# Altium footprint library con-weidmueller-sl35.PCBLIB: 184 footprints (part 11 of 12)
Each footprint in its own frame and in the unit in brackets; x right, y up, seen from the top. Pads: shape width x height; smd on the part's side, far side on the other; paste and mask are expansions set on the pad; w line width, h text height; cw(c..) or ccw(c..) is an arc to the next point about the centre after c.
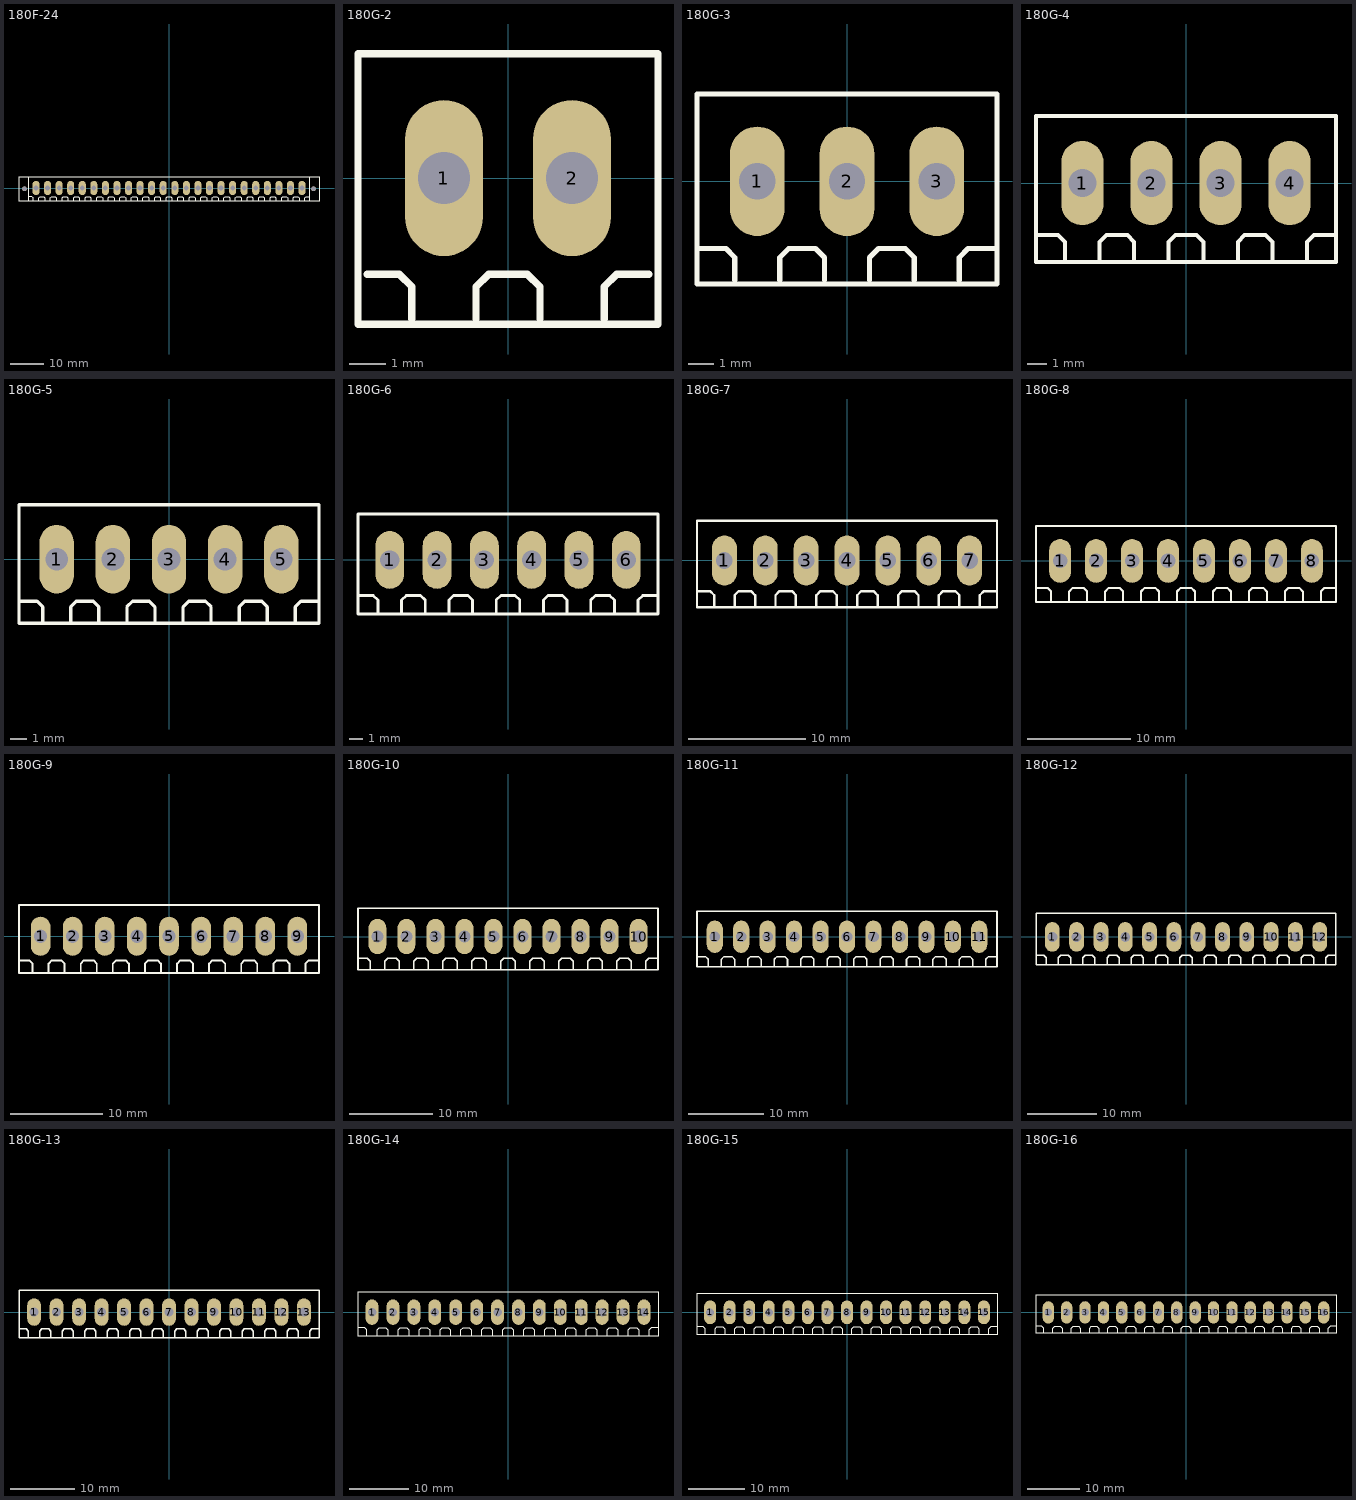
[diagram p10: the footprints below, top view; thin cyan lines are the x and y axes]

## 180F-24 [mil]
pads (26):
  round 56 hole 56: 1(-1722.44,-9.84) 1(1722.44,-9.84)
  oval 84x168 hole 56: 1(-1584.65,0) 2(-1446.85,0) 3(-1309.06,0) 4(-1171.26,0) 5(-1033.46,0) 6(-895.67,0) 7(-757.87,0) 8(-620.08,0) 9(-482.28,0) 10(-344.49,0) 11(-206.69,0) 12(-68.9,0) 13(68.9,0) 14(206.69,0) 15(344.49,0) 16(482.28,0) 17(620.08,0) 18(757.87,0) 19(895.67,0) 20(1033.46,0) 21(1171.26,0) 22(1309.06,0) 23(1446.85,0) 24(1584.65,0)
Top Overlay:
  lines w8: -1670.28,133.86 -1670.28,-157.48 ; -1667.32,-103.35 -1632.87,-103.35 -1619.09,-117.13 -1619.09,-151.57 ; -1550.2,-151.57 -1550.2,-117.13 -1536.42,-103.35 -1495.08,-103.35 -1481.3,-117.13 -1481.3,-151.57 ; -1412.4,-151.57 -1412.4,-117.13 -1398.62,-103.35 -1357.28,-103.35 -1343.5,-117.13 -1343.5,-151.57 ; -1274.61,-151.57 -1274.61,-117.13 -1260.83,-103.35 -1219.49,-103.35 -1205.71,-117.13 -1205.71,-151.57 ; -1136.81,-151.57 -1136.81,-117.13 -1123.03,-103.35 -1081.69,-103.35 -1067.91,-117.13 -1067.91,-151.57 ; -999.02,-151.57 -999.02,-117.13 -985.24,-103.35 -943.9,-103.35 -930.12,-117.13 -930.12,-151.57 ; -861.22,-151.57 -861.22,-117.13 -847.44,-103.35 -806.1,-103.35 -792.32,-117.13 -792.32,-151.57 ; -723.43,-151.57 -723.43,-117.13 -709.65,-103.35 -668.31,-103.35 -654.53,-117.13 -654.53,-151.57 ; -585.63,-151.57 -585.63,-117.13 -571.85,-103.35 -530.51,-103.35 -516.73,-117.13 -516.73,-151.57 ; -447.83,-151.57 -447.83,-117.13 -434.06,-103.35 -392.72,-103.35 -378.94,-117.13 -378.94,-151.57 ; -310.04,-151.57 -310.04,-117.13 -296.26,-103.35 -254.92,-103.35 -241.14,-117.13 -241.14,-151.57 ; -172.24,-151.57 -172.24,-117.13 -158.46,-103.35 -117.13,-103.35 -103.35,-117.13 -103.35,-151.57 ; -34.45,-151.57 -34.45,-117.13 -20.67,-103.35 20.67,-103.35 34.45,-117.13 34.45,-151.57 ; 103.35,-151.57 103.35,-117.13 117.13,-103.35 158.46,-103.35 172.24,-117.13 172.24,-151.57 ; 241.14,-151.57 241.14,-117.13 254.92,-103.35 296.26,-103.35 310.04,-117.13 310.04,-151.57 ; 378.94,-151.57 378.94,-117.13 392.72,-103.35 434.06,-103.35 447.83,-117.13 447.83,-151.57 ; 516.73,-151.57 516.73,-117.13 530.51,-103.35 571.85,-103.35 585.63,-117.13 585.63,-151.57 ; 654.53,-151.57 654.53,-117.13 668.31,-103.35 709.65,-103.35 723.43,-117.13 723.43,-151.57 ; 792.32,-151.57 792.32,-117.13 806.1,-103.35 847.44,-103.35 861.22,-117.13 861.22,-151.57 ; 930.12,-151.57 930.12,-117.13 943.9,-103.35 985.24,-103.35 999.02,-117.13 999.02,-151.57 ; 1067.91,-151.57 1067.91,-117.13 1081.69,-103.35 1123.03,-103.35 1136.81,-117.13 1136.81,-151.57 ; 1205.71,-151.57 1205.71,-117.13 1219.49,-103.35 1260.83,-103.35 1274.61,-117.13 1274.61,-151.57 ; 1343.5,-151.57 1343.5,-117.13 1357.28,-103.35 1398.62,-103.35 1412.4,-117.13 1412.4,-151.57 ; 1481.3,-151.57 1481.3,-117.13 1495.08,-103.35 1536.42,-103.35 1550.2,-117.13 1550.2,-151.57 ; 1619.09,-151.57 1619.09,-117.13 1632.87,-103.35 1667.32,-103.35 ; -1670.28,-157.48 1670.28,-157.48 ; -1670.28,-157.48 -1787.4,-157.48 -1787.4,133.86 1670.28,133.86 ; 1670.28,-157.48 1787.4,-157.48 1787.4,133.86 1670.28,133.86 ; 1670.28,-157.48 1670.28,133.86

## 180G-2 [mil]
pads (2):
  oval 84x168 hole 56: 1(-68.9,0) 2(68.9,0)
Top Overlay:
  lines w8: -151.57,-103.35 -117.13,-103.35 -103.35,-117.13 -103.35,-151.57 ; -34.45,-151.57 -34.45,-117.13 -20.67,-103.35 20.67,-103.35 34.45,-117.13 34.45,-151.57 ; 103.35,-151.57 103.35,-117.13 117.13,-103.35 151.57,-103.35 ; -161.42,-157.48 161.42,-157.48 161.42,133.86 -161.42,133.86 -161.42,-157.48

## 180G-3 [mil]
pads (3):
  oval 84x168 hole 56: 1(-137.8,0) 2(0,0) 3(137.8,0)
Top Overlay:
  lines w8: -227.36,-103.35 -186.02,-103.35 -172.24,-117.13 -172.24,-151.57 ; -103.35,-151.57 -103.35,-117.13 -89.57,-103.35 -48.23,-103.35 -34.45,-117.13 -34.45,-151.57 ; 34.45,-151.57 34.45,-117.13 48.23,-103.35 89.57,-103.35 103.35,-117.13 103.35,-151.57 ; 172.24,-151.57 172.24,-117.13 186.02,-103.35 227.36,-103.35 ; -230.32,-157.48 230.32,-157.48 230.32,133.86 -230.32,133.86 -230.32,-157.48

## 180G-4 [mil]
pads (4):
  oval 84x168 hole 56: 1(-206.69,0) 2(-68.9,0) 3(68.9,0) 4(206.69,0)
Top Overlay:
  lines w8: -296.26,-103.35 -254.92,-103.35 -241.14,-117.13 -241.14,-151.57 ; -172.24,-151.57 -172.24,-117.13 -158.46,-103.35 -117.13,-103.35 -103.35,-117.13 -103.35,-151.57 ; -34.45,-151.57 -34.45,-117.13 -20.67,-103.35 20.67,-103.35 34.45,-117.13 34.45,-151.57 ; 103.35,-151.57 103.35,-117.13 117.13,-103.35 158.46,-103.35 172.24,-117.13 172.24,-151.57 ; 241.14,-151.57 241.14,-117.13 254.92,-103.35 296.26,-103.35 ; -299.21,-157.48 299.21,-157.48 299.21,133.86 -299.21,133.86 -299.21,-157.48

## 180G-5 [mil]
pads (5):
  oval 84x168 hole 56: 1(-275.59,0) 2(-137.8,0) 3(0,0) 4(137.8,0) 5(275.59,0)
Top Overlay:
  lines w8: -365.16,-103.35 -323.82,-103.35 -310.04,-117.13 -310.04,-151.57 ; -241.14,-151.57 -241.14,-117.13 -227.36,-103.35 -186.02,-103.35 -172.24,-117.13 -172.24,-151.57 ; -103.35,-151.57 -103.35,-117.13 -89.57,-103.35 -48.23,-103.35 -34.45,-117.13 -34.45,-151.57 ; 34.45,-151.57 34.45,-117.13 48.23,-103.35 89.57,-103.35 103.35,-117.13 103.35,-151.57 ; 172.24,-151.57 172.24,-117.13 186.02,-103.35 227.36,-103.35 241.14,-117.13 241.14,-151.57 ; 310.04,-151.57 310.04,-117.13 323.82,-103.35 365.16,-103.35 ; -368.11,-157.48 368.11,-157.48 368.11,133.86 -368.11,133.86 -368.11,-157.48

## 180G-6 [mil]
pads (6):
  oval 84x168 hole 56: 1(-344.49,0) 2(-206.69,0) 3(-68.9,0) 4(68.9,0) 5(206.69,0) 6(344.49,0)
Top Overlay:
  lines w8: -434.06,-103.35 -392.72,-103.35 -378.94,-117.13 -378.94,-151.57 ; -310.04,-151.57 -310.04,-117.13 -296.26,-103.35 -254.92,-103.35 -241.14,-117.13 -241.14,-151.57 ; -172.24,-151.57 -172.24,-117.13 -158.46,-103.35 -117.13,-103.35 -103.35,-117.13 -103.35,-151.57 ; -34.45,-151.57 -34.45,-117.13 -20.67,-103.35 20.67,-103.35 34.45,-117.13 34.45,-151.57 ; 103.35,-151.57 103.35,-117.13 117.13,-103.35 158.46,-103.35 172.24,-117.13 172.24,-151.57 ; 241.14,-151.57 241.14,-117.13 254.92,-103.35 296.26,-103.35 310.04,-117.13 310.04,-151.57 ; 378.94,-151.57 378.94,-117.13 392.72,-103.35 434.06,-103.35 ; -437.01,-157.48 437.01,-157.48 437.01,133.86 -437.01,133.86 -437.01,-157.48

## 180G-7 [mil]
pads (7):
  oval 84x168 hole 56: 1(-413.39,0) 2(-275.59,0) 3(-137.8,0) 4(0,0) 5(137.8,0) 6(275.59,0) 7(413.39,0)
Top Overlay:
  lines w8: -502.95,-103.35 -461.61,-103.35 -447.83,-117.13 -447.83,-151.57 ; -378.94,-151.57 -378.94,-117.13 -365.16,-103.35 -323.82,-103.35 -310.04,-117.13 -310.04,-151.57 ; -241.14,-151.57 -241.14,-117.13 -227.36,-103.35 -186.02,-103.35 -172.24,-117.13 -172.24,-151.57 ; -103.35,-151.57 -103.35,-117.13 -89.57,-103.35 -48.23,-103.35 -34.45,-117.13 -34.45,-151.57 ; 34.45,-151.57 34.45,-117.13 48.23,-103.35 89.57,-103.35 103.35,-117.13 103.35,-151.57 ; 172.24,-151.57 172.24,-117.13 186.02,-103.35 227.36,-103.35 241.14,-117.13 241.14,-151.57 ; 310.04,-151.57 310.04,-117.13 323.82,-103.35 365.16,-103.35 378.94,-117.13 378.94,-151.57 ; 447.83,-151.57 447.83,-117.13 461.61,-103.35 502.95,-103.35 ; -505.91,-157.48 505.91,-157.48 505.91,133.86 -505.91,133.86 -505.91,-157.48

## 180G-8 [mil]
pads (8):
  oval 84x168 hole 56: 1(-482.28,0) 2(-344.49,0) 3(-206.69,0) 4(-68.9,0) 5(68.9,0) 6(206.69,0) 7(344.49,0) 8(482.28,0)
Top Overlay:
  lines w8: -571.85,-103.35 -530.51,-103.35 -516.73,-117.13 -516.73,-151.57 ; -447.83,-151.57 -447.83,-117.13 -434.06,-103.35 -392.72,-103.35 -378.94,-117.13 -378.94,-151.57 ; -310.04,-151.57 -310.04,-117.13 -296.26,-103.35 -254.92,-103.35 -241.14,-117.13 -241.14,-151.57 ; -172.24,-151.57 -172.24,-117.13 -158.46,-103.35 -117.13,-103.35 -103.35,-117.13 -103.35,-151.57 ; -34.45,-151.57 -34.45,-117.13 -20.67,-103.35 20.67,-103.35 34.45,-117.13 34.45,-151.57 ; 103.35,-151.57 103.35,-117.13 117.13,-103.35 158.46,-103.35 172.24,-117.13 172.24,-151.57 ; 241.14,-151.57 241.14,-117.13 254.92,-103.35 296.26,-103.35 310.04,-117.13 310.04,-151.57 ; 378.94,-151.57 378.94,-117.13 392.72,-103.35 434.06,-103.35 447.83,-117.13 447.83,-151.57 ; 516.73,-151.57 516.73,-117.13 530.51,-103.35 571.85,-103.35 ; -574.8,-157.48 574.8,-157.48 574.8,133.86 -574.8,133.86 -574.8,-157.48

## 180G-9 [mil]
pads (9):
  oval 84x168 hole 56: 1(-551.18,0) 2(-413.39,0) 3(-275.59,0) 4(-137.8,0) 5(0,0) 6(137.8,0) 7(275.59,0) 8(413.39,0) 9(551.18,0)
Top Overlay:
  lines w8: -640.75,-103.35 -599.41,-103.35 -585.63,-117.13 -585.63,-151.57 ; -516.73,-151.57 -516.73,-117.13 -502.95,-103.35 -461.61,-103.35 -447.83,-117.13 -447.83,-151.57 ; -378.94,-151.57 -378.94,-117.13 -365.16,-103.35 -323.82,-103.35 -310.04,-117.13 -310.04,-151.57 ; -241.14,-151.57 -241.14,-117.13 -227.36,-103.35 -186.02,-103.35 -172.24,-117.13 -172.24,-151.57 ; -103.35,-151.57 -103.35,-117.13 -89.57,-103.35 -48.23,-103.35 -34.45,-117.13 -34.45,-151.57 ; 34.45,-151.57 34.45,-117.13 48.23,-103.35 89.57,-103.35 103.35,-117.13 103.35,-151.57 ; 172.24,-151.57 172.24,-117.13 186.02,-103.35 227.36,-103.35 241.14,-117.13 241.14,-151.57 ; 310.04,-151.57 310.04,-117.13 323.82,-103.35 365.16,-103.35 378.94,-117.13 378.94,-151.57 ; 447.83,-151.57 447.83,-117.13 461.61,-103.35 502.95,-103.35 516.73,-117.13 516.73,-151.57 ; 585.63,-151.57 585.63,-117.13 599.41,-103.35 640.75,-103.35 ; -643.7,-157.48 643.7,-157.48 643.7,133.86 -643.7,133.86 -643.7,-157.48

## 180G-10 [mil]
pads (10):
  oval 84x168 hole 56: 1(-620.08,0) 2(-482.28,0) 3(-344.49,0) 4(-206.69,0) 5(-68.9,0) 6(68.9,0) 7(206.69,0) 8(344.49,0) 9(482.28,0) 10(620.08,0)
Top Overlay:
  lines w8: -709.65,-103.35 -668.31,-103.35 -654.53,-117.13 -654.53,-151.57 ; -585.63,-151.57 -585.63,-117.13 -571.85,-103.35 -530.51,-103.35 -516.73,-117.13 -516.73,-151.57 ; -447.83,-151.57 -447.83,-117.13 -434.06,-103.35 -392.72,-103.35 -378.94,-117.13 -378.94,-151.57 ; -310.04,-151.57 -310.04,-117.13 -296.26,-103.35 -254.92,-103.35 -241.14,-117.13 -241.14,-151.57 ; -172.24,-151.57 -172.24,-117.13 -158.46,-103.35 -117.13,-103.35 -103.35,-117.13 -103.35,-151.57 ; -34.45,-151.57 -34.45,-117.13 -20.67,-103.35 20.67,-103.35 34.45,-117.13 34.45,-151.57 ; 103.35,-151.57 103.35,-117.13 117.13,-103.35 158.46,-103.35 172.24,-117.13 172.24,-151.57 ; 241.14,-151.57 241.14,-117.13 254.92,-103.35 296.26,-103.35 310.04,-117.13 310.04,-151.57 ; 378.94,-151.57 378.94,-117.13 392.72,-103.35 434.06,-103.35 447.83,-117.13 447.83,-151.57 ; 516.73,-151.57 516.73,-117.13 530.51,-103.35 571.85,-103.35 585.63,-117.13 585.63,-151.57 ; 654.53,-151.57 654.53,-117.13 668.31,-103.35 709.65,-103.35 ; -712.6,-157.48 712.6,-157.48 712.6,133.86 -712.6,133.86 -712.6,-157.48

## 180G-11 [mil]
pads (11):
  oval 84x168 hole 56: 1(-688.98,0) 2(-551.18,0) 3(-413.39,0) 4(-275.59,0) 5(-137.8,0) 6(0,0) 7(137.8,0) 8(275.59,0) 9(413.39,0) 10(551.18,0) 11(688.98,0)
Top Overlay:
  lines w8: -778.54,-103.35 -737.2,-103.35 -723.43,-117.13 -723.43,-151.57 ; -654.53,-151.57 -654.53,-117.13 -640.75,-103.35 -599.41,-103.35 -585.63,-117.13 -585.63,-151.57 ; -516.73,-151.57 -516.73,-117.13 -502.95,-103.35 -461.61,-103.35 -447.83,-117.13 -447.83,-151.57 ; -378.94,-151.57 -378.94,-117.13 -365.16,-103.35 -323.82,-103.35 -310.04,-117.13 -310.04,-151.57 ; -241.14,-151.57 -241.14,-117.13 -227.36,-103.35 -186.02,-103.35 -172.24,-117.13 -172.24,-151.57 ; -103.35,-151.57 -103.35,-117.13 -89.57,-103.35 -48.23,-103.35 -34.45,-117.13 -34.45,-151.57 ; 34.45,-151.57 34.45,-117.13 48.23,-103.35 89.57,-103.35 103.35,-117.13 103.35,-151.57 ; 172.24,-151.57 172.24,-117.13 186.02,-103.35 227.36,-103.35 241.14,-117.13 241.14,-151.57 ; 310.04,-151.57 310.04,-117.13 323.82,-103.35 365.16,-103.35 378.94,-117.13 378.94,-151.57 ; 447.83,-151.57 447.83,-117.13 461.61,-103.35 502.95,-103.35 516.73,-117.13 516.73,-151.57 ; 585.63,-151.57 585.63,-117.13 599.41,-103.35 640.75,-103.35 654.53,-117.13 654.53,-151.57 ; 723.43,-151.57 723.43,-117.13 737.2,-103.35 778.54,-103.35 ; -781.5,-157.48 781.5,-157.48 781.5,133.86 -781.5,133.86 -781.5,-157.48

## 180G-12 [mil]
pads (12):
  oval 84x168 hole 56: 1(-757.87,0) 2(-620.08,0) 3(-482.28,0) 4(-344.49,0) 5(-206.69,0) 6(-68.9,0) 7(68.9,0) 8(206.69,0) 9(344.49,0) 10(482.28,0) 11(620.08,0) 12(757.87,0)
Top Overlay:
  lines w8: -847.44,-103.35 -806.1,-103.35 -792.32,-117.13 -792.32,-151.57 ; -723.43,-151.57 -723.43,-117.13 -709.65,-103.35 -668.31,-103.35 -654.53,-117.13 -654.53,-151.57 ; -585.63,-151.57 -585.63,-117.13 -571.85,-103.35 -530.51,-103.35 -516.73,-117.13 -516.73,-151.57 ; -447.83,-151.57 -447.83,-117.13 -434.06,-103.35 -392.72,-103.35 -378.94,-117.13 -378.94,-151.57 ; -310.04,-151.57 -310.04,-117.13 -296.26,-103.35 -254.92,-103.35 -241.14,-117.13 -241.14,-151.57 ; -172.24,-151.57 -172.24,-117.13 -158.46,-103.35 -117.13,-103.35 -103.35,-117.13 -103.35,-151.57 ; -34.45,-151.57 -34.45,-117.13 -20.67,-103.35 20.67,-103.35 34.45,-117.13 34.45,-151.57 ; 103.35,-151.57 103.35,-117.13 117.13,-103.35 158.46,-103.35 172.24,-117.13 172.24,-151.57 ; 241.14,-151.57 241.14,-117.13 254.92,-103.35 296.26,-103.35 310.04,-117.13 310.04,-151.57 ; 378.94,-151.57 378.94,-117.13 392.72,-103.35 434.06,-103.35 447.83,-117.13 447.83,-151.57 ; 516.73,-151.57 516.73,-117.13 530.51,-103.35 571.85,-103.35 585.63,-117.13 585.63,-151.57 ; 654.53,-151.57 654.53,-117.13 668.31,-103.35 709.65,-103.35 723.43,-117.13 723.43,-151.57 ; 792.32,-151.57 792.32,-117.13 806.1,-103.35 847.44,-103.35 ; -850.39,-157.48 850.39,-157.48 850.39,133.86 -850.39,133.86 -850.39,-157.48

## 180G-13 [mil]
pads (13):
  oval 84x168 hole 56: 1(-826.77,0) 2(-688.98,0) 3(-551.18,0) 4(-413.39,0) 5(-275.59,0) 6(-137.8,0) 7(0,0) 8(137.8,0) 9(275.59,0) 10(413.39,0) 11(551.18,0) 12(688.98,0) 13(826.77,0)
Top Overlay:
  lines w8: -916.34,-103.35 -875,-103.35 -861.22,-117.13 -861.22,-151.57 ; -792.32,-151.57 -792.32,-117.13 -778.54,-103.35 -737.2,-103.35 -723.43,-117.13 -723.43,-151.57 ; -654.53,-151.57 -654.53,-117.13 -640.75,-103.35 -599.41,-103.35 -585.63,-117.13 -585.63,-151.57 ; -516.73,-151.57 -516.73,-117.13 -502.95,-103.35 -461.61,-103.35 -447.83,-117.13 -447.83,-151.57 ; -378.94,-151.57 -378.94,-117.13 -365.16,-103.35 -323.82,-103.35 -310.04,-117.13 -310.04,-151.57 ; -241.14,-151.57 -241.14,-117.13 -227.36,-103.35 -186.02,-103.35 -172.24,-117.13 -172.24,-151.57 ; -103.35,-151.57 -103.35,-117.13 -89.57,-103.35 -48.23,-103.35 -34.45,-117.13 -34.45,-151.57 ; 34.45,-151.57 34.45,-117.13 48.23,-103.35 89.57,-103.35 103.35,-117.13 103.35,-151.57 ; 172.24,-151.57 172.24,-117.13 186.02,-103.35 227.36,-103.35 241.14,-117.13 241.14,-151.57 ; 310.04,-151.57 310.04,-117.13 323.82,-103.35 365.16,-103.35 378.94,-117.13 378.94,-151.57 ; 447.83,-151.57 447.83,-117.13 461.61,-103.35 502.95,-103.35 516.73,-117.13 516.73,-151.57 ; 585.63,-151.57 585.63,-117.13 599.41,-103.35 640.75,-103.35 654.53,-117.13 654.53,-151.57 ; 723.43,-151.57 723.43,-117.13 737.2,-103.35 778.54,-103.35 792.32,-117.13 792.32,-151.57 ; 861.22,-151.57 861.22,-117.13 875,-103.35 916.34,-103.35 ; -919.29,-157.48 919.29,-157.48 919.29,133.86 -919.29,133.86 -919.29,-157.48

## 180G-14 [mil]
pads (14):
  oval 84x168 hole 56: 1(-895.67,0) 2(-757.87,0) 3(-620.08,0) 4(-482.28,0) 5(-344.49,0) 6(-206.69,0) 7(-68.9,0) 8(68.9,0) 9(206.69,0) 10(344.49,0) 11(482.28,0) 12(620.08,0) 13(757.87,0) 14(895.67,0)
Top Overlay:
  lines w8: -985.24,-103.35 -943.9,-103.35 -930.12,-117.13 -930.12,-151.57 ; -861.22,-151.57 -861.22,-117.13 -847.44,-103.35 -806.1,-103.35 -792.32,-117.13 -792.32,-151.57 ; -723.43,-151.57 -723.43,-117.13 -709.65,-103.35 -668.31,-103.35 -654.53,-117.13 -654.53,-151.57 ; -585.63,-151.57 -585.63,-117.13 -571.85,-103.35 -530.51,-103.35 -516.73,-117.13 -516.73,-151.57 ; -447.83,-151.57 -447.83,-117.13 -434.06,-103.35 -392.72,-103.35 -378.94,-117.13 -378.94,-151.57 ; -310.04,-151.57 -310.04,-117.13 -296.26,-103.35 -254.92,-103.35 -241.14,-117.13 -241.14,-151.57 ; -172.24,-151.57 -172.24,-117.13 -158.46,-103.35 -117.13,-103.35 -103.35,-117.13 -103.35,-151.57 ; -34.45,-151.57 -34.45,-117.13 -20.67,-103.35 20.67,-103.35 34.45,-117.13 34.45,-151.57 ; 103.35,-151.57 103.35,-117.13 117.13,-103.35 158.46,-103.35 172.24,-117.13 172.24,-151.57 ; 241.14,-151.57 241.14,-117.13 254.92,-103.35 296.26,-103.35 310.04,-117.13 310.04,-151.57 ; 378.94,-151.57 378.94,-117.13 392.72,-103.35 434.06,-103.35 447.83,-117.13 447.83,-151.57 ; 516.73,-151.57 516.73,-117.13 530.51,-103.35 571.85,-103.35 585.63,-117.13 585.63,-151.57 ; 654.53,-151.57 654.53,-117.13 668.31,-103.35 709.65,-103.35 723.43,-117.13 723.43,-151.57 ; 792.32,-151.57 792.32,-117.13 806.1,-103.35 847.44,-103.35 861.22,-117.13 861.22,-151.57 ; 930.12,-151.57 930.12,-117.13 943.9,-103.35 985.24,-103.35 ; -988.19,-157.48 988.19,-157.48 988.19,133.86 -988.19,133.86 -988.19,-157.48

## 180G-15 [mil]
pads (15):
  oval 84x168 hole 56: 1(-964.57,0) 2(-826.77,0) 3(-688.98,0) 4(-551.18,0) 5(-413.39,0) 6(-275.59,0) 7(-137.8,0) 8(0,0) 9(137.8,0) 10(275.59,0) 11(413.39,0) 12(551.18,0) 13(688.98,0) 14(826.77,0) 15(964.57,0)
Top Overlay:
  lines w8: -1054.13,-103.35 -1012.8,-103.35 -999.02,-117.13 -999.02,-151.57 ; -930.12,-151.57 -930.12,-117.13 -916.34,-103.35 -875,-103.35 -861.22,-117.13 -861.22,-151.57 ; -792.32,-151.57 -792.32,-117.13 -778.54,-103.35 -737.2,-103.35 -723.43,-117.13 -723.43,-151.57 ; -654.53,-151.57 -654.53,-117.13 -640.75,-103.35 -599.41,-103.35 -585.63,-117.13 -585.63,-151.57 ; -516.73,-151.57 -516.73,-117.13 -502.95,-103.35 -461.61,-103.35 -447.83,-117.13 -447.83,-151.57 ; -378.94,-151.57 -378.94,-117.13 -365.16,-103.35 -323.82,-103.35 -310.04,-117.13 -310.04,-151.57 ; -241.14,-151.57 -241.14,-117.13 -227.36,-103.35 -186.02,-103.35 -172.24,-117.13 -172.24,-151.57 ; -103.35,-151.57 -103.35,-117.13 -89.57,-103.35 -48.23,-103.35 -34.45,-117.13 -34.45,-151.57 ; 34.45,-151.57 34.45,-117.13 48.23,-103.35 89.57,-103.35 103.35,-117.13 103.35,-151.57 ; 172.24,-151.57 172.24,-117.13 186.02,-103.35 227.36,-103.35 241.14,-117.13 241.14,-151.57 ; 310.04,-151.57 310.04,-117.13 323.82,-103.35 365.16,-103.35 378.94,-117.13 378.94,-151.57 ; 447.83,-151.57 447.83,-117.13 461.61,-103.35 502.95,-103.35 516.73,-117.13 516.73,-151.57 ; 585.63,-151.57 585.63,-117.13 599.41,-103.35 640.75,-103.35 654.53,-117.13 654.53,-151.57 ; 723.43,-151.57 723.43,-117.13 737.2,-103.35 778.54,-103.35 792.32,-117.13 792.32,-151.57 ; 861.22,-151.57 861.22,-117.13 875,-103.35 916.34,-103.35 930.12,-117.13 930.12,-151.57 ; 999.02,-151.57 999.02,-117.13 1012.8,-103.35 1054.13,-103.35 ; -1057.09,-157.48 1057.09,-157.48 1057.09,133.86 -1057.09,133.86 -1057.09,-157.48

## 180G-16 [mil]
pads (16):
  oval 84x168 hole 56: 1(-1033.46,0) 2(-895.67,0) 3(-757.87,0) 4(-620.08,0) 5(-482.28,0) 6(-344.49,0) 7(-206.69,0) 8(-68.9,0) 9(68.9,0) 10(206.69,0) 11(344.49,0) 12(482.28,0) 13(620.08,0) 14(757.87,0) 15(895.67,0) 16(1033.46,0)
Top Overlay:
  lines w8: -1123.03,-103.35 -1081.69,-103.35 -1067.91,-117.13 -1067.91,-151.57 ; -999.02,-151.57 -999.02,-117.13 -985.24,-103.35 -943.9,-103.35 -930.12,-117.13 -930.12,-151.57 ; -861.22,-151.57 -861.22,-117.13 -847.44,-103.35 -806.1,-103.35 -792.32,-117.13 -792.32,-151.57 ; -723.43,-151.57 -723.43,-117.13 -709.65,-103.35 -668.31,-103.35 -654.53,-117.13 -654.53,-151.57 ; -585.63,-151.57 -585.63,-117.13 -571.85,-103.35 -530.51,-103.35 -516.73,-117.13 -516.73,-151.57 ; -447.83,-151.57 -447.83,-117.13 -434.06,-103.35 -392.72,-103.35 -378.94,-117.13 -378.94,-151.57 ; -310.04,-151.57 -310.04,-117.13 -296.26,-103.35 -254.92,-103.35 -241.14,-117.13 -241.14,-151.57 ; -172.24,-151.57 -172.24,-117.13 -158.46,-103.35 -117.13,-103.35 -103.35,-117.13 -103.35,-151.57 ; -34.45,-151.57 -34.45,-117.13 -20.67,-103.35 20.67,-103.35 34.45,-117.13 34.45,-151.57 ; 103.35,-151.57 103.35,-117.13 117.13,-103.35 158.46,-103.35 172.24,-117.13 172.24,-151.57 ; 241.14,-151.57 241.14,-117.13 254.92,-103.35 296.26,-103.35 310.04,-117.13 310.04,-151.57 ; 378.94,-151.57 378.94,-117.13 392.72,-103.35 434.06,-103.35 447.83,-117.13 447.83,-151.57 ; 516.73,-151.57 516.73,-117.13 530.51,-103.35 571.85,-103.35 585.63,-117.13 585.63,-151.57 ; 654.53,-151.57 654.53,-117.13 668.31,-103.35 709.65,-103.35 723.43,-117.13 723.43,-151.57 ; 792.32,-151.57 792.32,-117.13 806.1,-103.35 847.44,-103.35 861.22,-117.13 861.22,-151.57 ; 930.12,-151.57 930.12,-117.13 943.9,-103.35 985.24,-103.35 999.02,-117.13 999.02,-151.57 ; 1067.91,-151.57 1067.91,-117.13 1081.69,-103.35 1123.03,-103.35 ; -1125.98,-157.48 1125.98,-157.48 1125.98,133.86 -1125.98,133.86 -1125.98,-157.48